# Altium schematic symbol library B6B-PH-K-S (LF)(SN).SchLib: 1 symbol
Pins are listed as number, name and electrical type; pins without a type are passive.

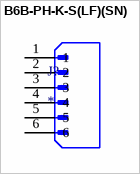
[diagram p0: symbol B6B-PH-K-S(LF)(SN)]

## B6B-PH-K-S(LF)(SN)
designator J?
MP: B6B-PH-K-S(LF)(SN); MF: {'manufacturer': u'JST'}; Price: None; Availability: Unavailable; Value: *; Package: None
footprint JST_B6B-PH-K-S(LF)(SN)
pins: 1, 2, 3, 4, 5, 6